# Altium footprint library Transmitter_PCB.PcbLib: 3 footprints
Each footprint in its own frame and in the unit in brackets; x right, y up, seen from the top. Pads: shape width x height; smd on the part's side, far side on the other; paste and mask are expansions set on the pad; w line width, h text height; cw(c..) or ccw(c..) is an arc to the next point about the centre after c.
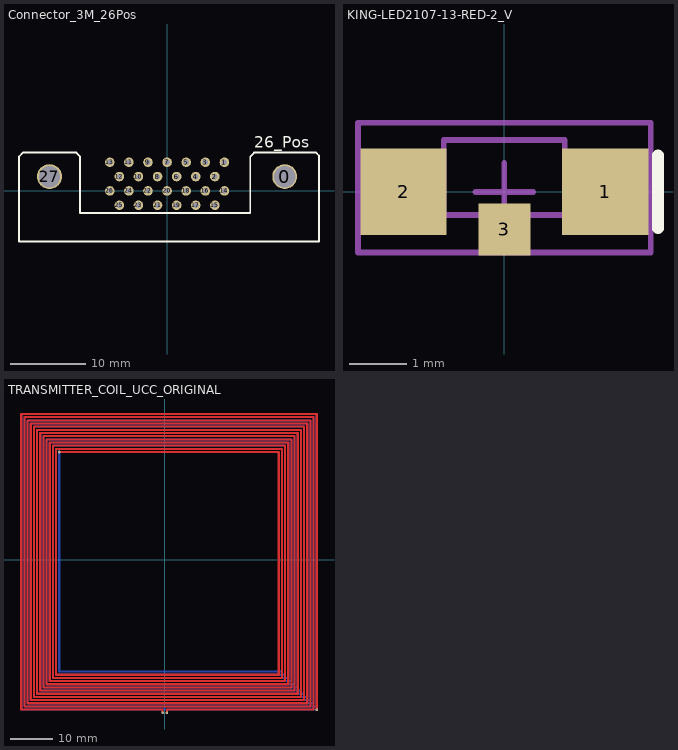
[diagram p0: the footprints below, top view; thin cyan lines are the x and y axes]

## Connector_3M_26Pos [mil] "Connector_3M_26Pos"
pads (28):
  round 130 hole 112: 0(615.5,75) 27(-615.5,75)
  round 50 hole 28: 1(300,150) 2(250,75) 3(200,150) 4(150,75) 5(100,150) 6(50,75) 7(0,150) 8(-50,75) 9(-100,150) 10(-150,75) 11(-200,150) 12(-250,75) 13(-300,150) 14(300,0) 15(250,-75) 16(200,0) 17(150,-75) 18(100,0) 19(50,-75) 20(0,0) 21(-50,-75) 22(-100,0) 23(-150,-75) 24(-200,0) 25(-250,-75) 26(-300,0)
Top Overlay:
  lines w10: -775,-265 -775,180 -755,200 -475,200 -455,180 -455,-115 435,-115 435,180 455,200 615,200 780,200 795,185 795,-265 -775,-265
  text "26_Pos" at 455,225 h60
3D body: height 370.5, standoff -149.5, extent -730,-475 730,185

## KING-LED2107-13-RED-2_V [mm] "LED, Right Angle SMT, 2.1x0.7mm, 1.3mm Thickness, Pad 1 Cathode"
height 1.3
pads (3):
  rect 1.5x1.5 smd paste+0 mask+0: 1(1.75,0) 2(-1.75,0)
  rect 0.9x0.9 smd paste+0 mask+0: 3(0,-0.65)
Top Overlay:
  lines w0.2: 2.667,-0.635 2.667,0.635
Mechanical 13:
  lines w0.1: -1.05,-0.4 1.05,-0.4 1.05,0.9 -1.05,0.9 -1.05,-0.4
Mechanical 15:
  lines w0.1: -0.5,0 0.5,0 ; 0,-0.5 0,0.5 ; -2.54,-1.05 2.54,-1.05 2.54,1.2 -2.54,1.2 -2.54,-1.05
3D body: height 1, standoff 0, extent -1.5,-0.5 1.5,0.5
3D body: height 1, standoff 0, extent -1,0.5 1,1.5
3D body: height 1, standoff 0, extent -0.996,0.501 0,1.499
3D body: height 1, standoff 0, extent 0.004,0.501 1,1.499

## TRANSMITTER_COIL_UCC_ORIGINAL [mil] "Original 70mm coil, 0.5mm trace width, 0.25mm separation"
pads (2):
  round 24 hole 12: 1(19.68,-1427.17) 2(-19.69,-1427.17)
via 1417.32,-1397.64 diameter 24 hole 12
via -984.25,1003.94 diameter 24 hole 12
Top Layer:
  lines w19.68: -984.25,1003.94 1062.99,1003.94 1062.99,-1072.83 -1013.78,-1072.83 -1013.78,1033.46 1092.52,1033.46 1092.52,-1102.36 -1043.31,-1102.36 -1043.31,1062.99 1122.05,1062.99 1122.05,-1131.89 -1072.83,-1131.89 -1072.83,1092.52 1151.57,1092.52 1151.57,-1161.42 -1102.36,-1161.42 -1102.36,1122.05 1181.1,1122.05 1181.1,-1190.94 -1131.89,-1190.94 -1131.89,1151.57 1210.63,1151.57 1210.63,-1220.47 -1161.42,-1220.47 -1161.42,1181.1 1240.16,1181.1 1240.16,-1250 -1190.94,-1250 -1190.94,1210.63 1269.68,1210.63 1269.68,-1279.53 -1220.47,-1279.53 -1220.47,1240.16 1299.21,1240.16 1299.21,-1309.06 -1250,-1309.06 -1250,1269.68 1328.74,1269.68 1328.74,-1338.58 -1279.53,-1338.58 -1279.53,1299.21 1358.27,1299.21 1358.27,-1368.11 -1309.06,-1368.11 -1309.06,1328.74 1387.8,1328.74 1387.8,-1397.64 19.68,-1397.64 19.68,-1427.17 ; -19.69,-1427.17 -19.69,-1397.64 -1338.58,-1397.64 -1338.58,1358.27 1417.32,1358.27 1417.32,-1397.64
Bottom Layer:
  lines w19.68: -984.25,1003.94 -984.25,-1043.31 1092.52,-1043.31 1092.52,1033.46 -1013.78,1033.46 -1013.78,-1072.83 1122.05,-1072.83 1122.05,1062.99 -1043.31,1062.99 -1043.31,-1102.36 1151.57,-1102.36 1151.57,1092.52 -1072.83,1092.52 -1072.83,-1131.89 1181.1,-1131.89 1181.1,1122.05 -1102.36,1122.05 -1102.36,-1161.42 1210.63,-1161.42 1210.63,1151.57 -1131.89,1151.57 -1131.89,-1190.94 1240.16,-1190.94 1240.16,1181.1 -1161.42,1181.1 -1161.42,-1220.47 1269.68,-1220.47 1269.68,1210.63 -1190.94,1210.63 -1190.94,-1250 1299.21,-1250 1299.21,1240.16 -1220.47,1240.16 -1220.47,-1279.53 1328.74,-1279.53 1328.74,1269.68 -1250,1269.68 -1250,1250 -1250,-1309.06 1358.27,-1309.06 1358.27,1299.21 -1279.53,1299.21 -1279.53,-1338.58 1387.8,-1338.58 1387.8,1328.74 -1309.06,1328.74 -1309.06,-1368.11 1417.32,-1368.11 1417.32,1358.27 -1338.58,1358.27 -1338.58,-1397.64 1417.32,-1397.64